# EAGLE library part 2NBS16-8 (library EW_Resistors)
BOURNS RESISTOR NETWORK
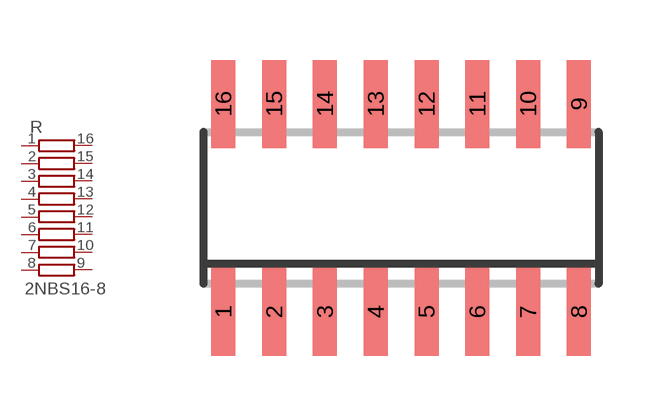
[diagram p31: symbol with the pads of SO16; footprint SO16]

Designator prefix R

## 2NBS16-8 (OC_FARNELL: unknown; OC_NEWARK: unknown)  [SO16]
1  1  pas
2  2  pas
3  3  pas
4  4  pas
5  5  pas
6  6  pas
7  7  pas
8  8  pas
9  9  pas
10  10  pas
11  11  pas
12  12  pas
13  13  pas
14  14  pas
15  15  pas
16  16  pas

## Footprint SO16 (pad centres in mm)
BOURNS RESISTOR NETWORK
smd 0.6 x 2.2: 1 -4.445,-2.6; 2 -3.175,-2.6; 3 -1.905,-2.6; 4 -0.635,-2.6; 5 0.635,-2.6; 6 1.905,-2.6; 7 3.175,-2.6; 8 4.445,-2.6; 9 4.445,2.6; 10 3.175,2.6; 11 1.905,2.6; 12 0.635,2.6; 13 -0.635,2.6; 14 -1.905,2.6; 15 -3.175,2.6; 16 -4.445,2.6